# Altium footprint library Diodes.PcbLib: 6 footprints
Each footprint in its own frame and in the unit in brackets; x right, y up, seen from the top. Pads: shape width x height; smd on the part's side, far side on the other; paste and mask are expansions set on the pad; w line width, h text height; cw(c..) or ccw(c..) is an arc to the next point about the centre after c.
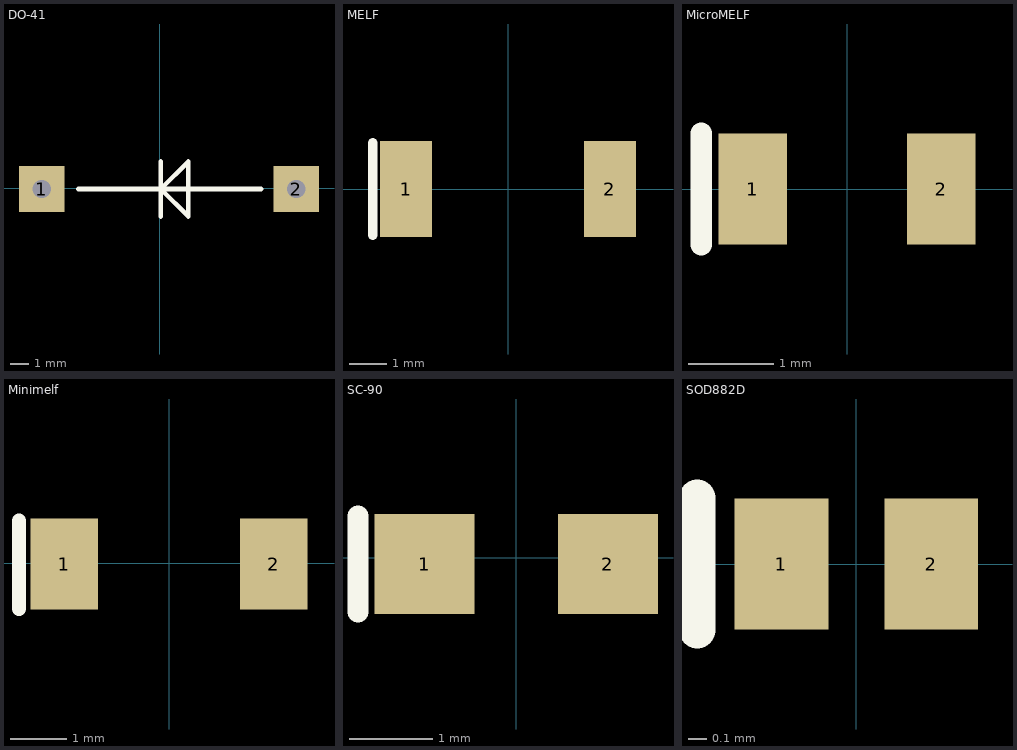
[diagram p0: the footprints below, top view; thin cyan lines are the x and y axes]

## DO-41 [mm]
pads (2):
  rect 2.5x2.5 hole 1: 1(-6.45,-0.05) 2(7.45,-0.05)
Top Overlay:
  lines w0.254: -4.45,-0.05 5.55,-0.05 ; 0.05,-1.55 0.05,1.45 ; 0.05,-0.05 1.55,1.45 1.55,-0.05 1.55,-1.55 0.05,-0.05
3D body: height 7.99, standoff -2.5, extent -6.95,-1.846 7.916,1.746

## MELF [mm]
pads (2):
  rect 1.4x2.6 smd: 1(-2.75,0) 2(2.75,0)
Top Overlay:
  lines w0.254: -3.65,-1.25 -3.65,1.25
3D body: height 2.59, standoff 0, extent -2.6,-1.3 2.6,1.295

## MicroMELF [mm]
pads (2):
  rect 0.8x1.3 smd: 1(-1.1,0) 2(1.1,0)
Top Overlay:
  lines w0.254: -1.7,-0.65 -1.7,0.65
3D body: height 1.2, standoff 0, extent -1,-0.598 1,0.6

## Minimelf [mm]
pads (2):
  rect 1.2x1.6 smd: 1(-1.85,-0.013) 2(1.85,-0.013)
Top Overlay:
  lines w0.254: -2.65,-0.8 -2.65,0.75
3D body: height 1.6, standoff 0, extent -1.85,-0.8 1.85,0.775

## SC-90 [mm]
pads (2):
  rect 1.2x1.2 smd: 1(-1.1,-0.075) 2(1.1,-0.075)
Top Overlay:
  lines w0.254: -1.9,-0.65 -1.9,0.5
3D body: height 0.85, standoff 0, extent -1.35,-0.75 1.35,0.6

## SOD882D [mm] "SOD882D; 2 Leads; Body 1.0 x 0.6 mm, (LxW)"
height 0.4
pads (2):
  rect 0.5x0.7 smd: 1(-0.4,0) 2(0.4,0)
Top Overlay:
  lines w0.2: -0.85,-0.35 -0.85,0.35
3D body: height 0.51, standoff 0, extent -0.492,-0.292 0.493,0.293